# EAGLE library part TP4056 (library Public)
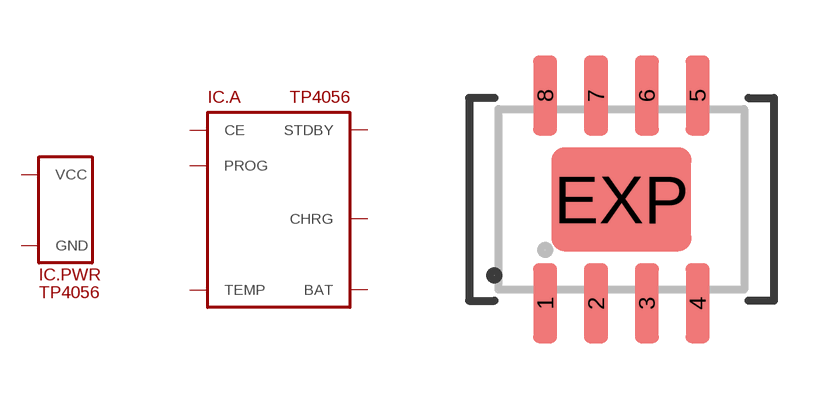
[diagram p95: symbol with the pads of SOP8-PP; footprint SOP8-PP]

Designator prefix IC; gates .PWR=SUPPLY_VCC/GND .A=TP4056

## TP4056  [SOP8-PP]
1  .A:TEMP
2  .A:PROG
3  .PWR:GND
4  .PWR:VCC
5  .A:BAT
6  .A:STDBY
7  .A:CHRG
8  .A:CE
EXP  .PWR:GND

## Footprint SOP8-PP (pad centres in mm)
smd 0.6 x 2: 1 -1.905,-2.6; 2 -0.635,-2.6; 3 0.635,-2.6; 4 1.905,-2.6; 5 1.905,2.6; 6 0.635,2.6; 7 -0.635,2.6; 8 -1.905,2.6
smd 3.5 x 2.6: EXP 0,0